# EAGLE library part RELAY_G5RL-1E (library equinox)
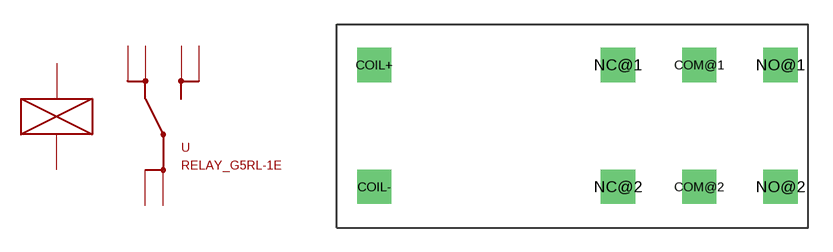
[diagram p0: symbol with the pads of G5RL-1E; footprint G5RL-1E]

Designator prefix -

## RELAY_G5RL-1E  [G5RL-1E]
COIL+  COIL+
COIL-  COIL-
COM@1  COM
COM@2  COM
NC@1  NC
NC@2  NC
NO@1  NO
NO@2  NO

## Footprint G5RL-1E (pad centres in mm)
drill 1.4 square: COIL+ -10.7,4; COIL- -10.7,-3.5; COM@1 9.3,4; COM@2 9.3,-3.5; NC@1 4.3,4; NC@2 4.3,-3.5; NO@1 14.3,4; NO@2 14.3,-3.5